# Altium integrated library Analog Devices Switches and Multiplexers Analog Switches.IntLib: 575 symbols (part 17 of 23)
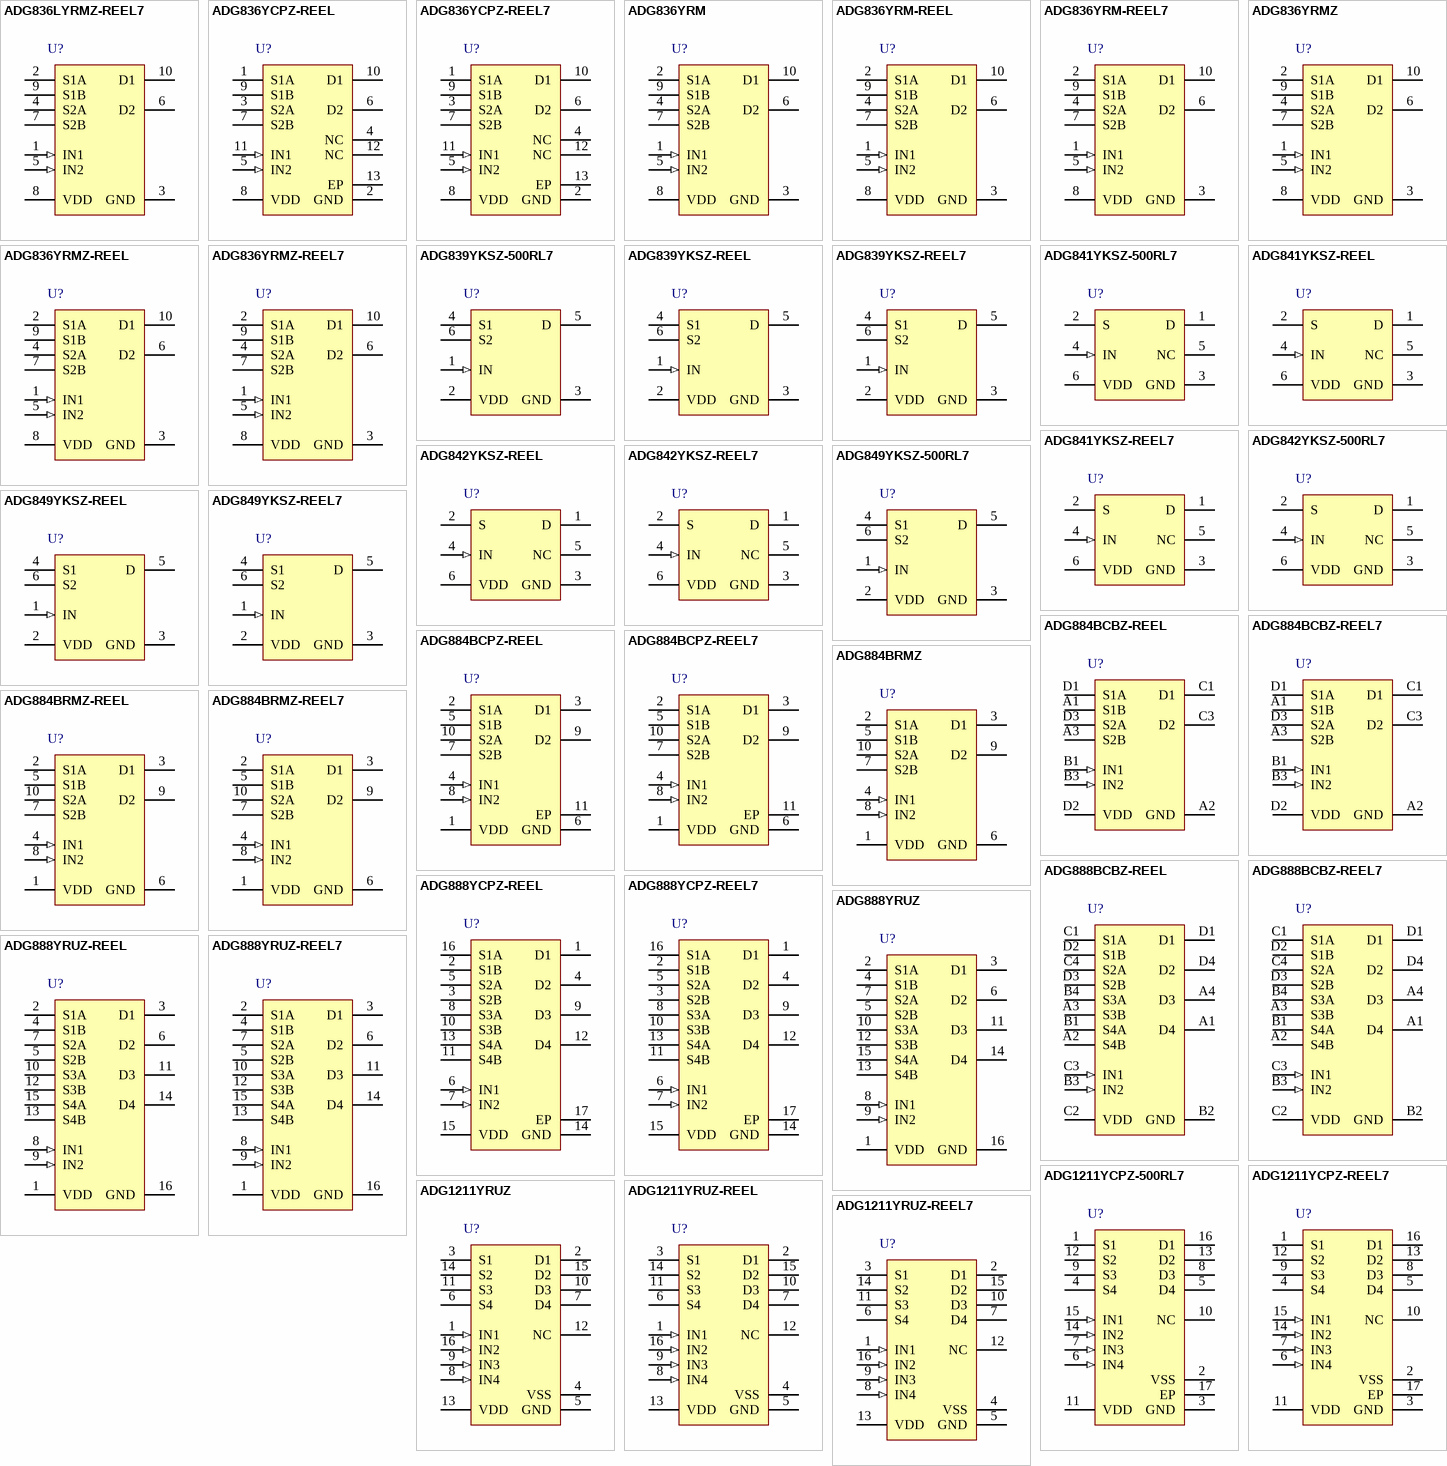
[diagram p31: symbols ADG836LYRMZ-REEL7 to ADG1211YRUZ-REEL7]

## ADG836YRM
designator U?
0.5 Ohm CMOS 1.65 to 3.6 V Dual SPDT / 2:1 MUX, -40 to 125 degC, 10-pin SOP (RM-10), Tube; Manufacturer: Analog Devices; PartNumber: ADG836YRM; # Sw Functions: 2; Id, Is (ON): 200pA, 200pA, 200pA; Max Pos Supply: 3.6V; Min Pos Supply: 1.65V; Power Dissipation: 3.6 uW; Ron (ohms): 0.5; DatasheetVersion: Rev. A; PackageVersion: Aug-05; PackageReference: RM-10; PackageDescription: 10-Pin Mini Small Outline Package, Body 3 x 3 mm, Pitch 0.5 mm; Supplier 1: Digi-Key; Supplier Part Number 1: ADG836YRM-ND; Supplier 2: Mouser; Supplier Part Number 2: 584-ADG836YRM; Configuration: SPDT; Is OFF: 200pA, 200pA, 200pA; Packing: Tube; Mounting Technology: Surface Mount; Code_JEDEC: MO-187-BA; ComponentLink1Description: Manufacturer URL; ComponentLink1URL: http://www.analog.com/en/index.html; ComponentLink2Description: Datasheet; ComponentLink2URL: http://www.analog.com/static/imported-files/data_sheets/ADG836.pdf; ComponentLink3Description: Package Specification; ComponentLink3URL: http://www.analog.com/static/imported-files/packages/PKG_PDF/MSOP%28RM%29/RM_10.pdf
footprint ADI-RM-10_N (SOP, 10-Leads, Body 3x3mm, Pitch 0.5mm, IPC Medium Density)
footprint ADI-RM-10_L (SOP, 10-Leads, Body 3x3mm, Pitch 0.5mm, IPC High Density)
footprint ADI-RM-10_M (SOP, 10-Leads, Body 3x3mm, Pitch 0.5mm, IPC Low Density)
pins: 1 IN1 (in) "Logic control input.", 2 S1A "Source terminal. May be an input or output.", 3 GND (power) "Ground (0 V) reference.", 4 S2A "Source terminal. May be an input or output.", 5 IN2 (in) "Logic control input.", 6 D2 "Drain terminal. May be an input or output.", 7 S2B "Source terminal. May be an input or output.", 8 VDD (power) "Most positive power supply potential.", 9 S1B "Source terminal. May be an input or output.", 10 D1 "Drain terminal. May be an input or output."

## ADG836YRM-REEL
designator U?
0.5 Ohm CMOS 1.65 to 3.6 V Dual SPDT / 2:1 MUX, -40 to 125 degC, 10-pin SOP (RM-10), Reel; Manufacturer: Analog Devices; PartNumber: ADG836YRM-REEL; # Sw Functions: 2; Id, Is (ON): 200pA, 200pA, 200pA; Max Pos Supply: 3.6V; Min Pos Supply: 1.65V; Power Dissipation: 3.6 uW; Ron (ohms): 0.5; DatasheetVersion: Rev. A; PackageVersion: Aug-05; PackageReference: RM-10; PackageDescription: 10-Pin Mini Small Outline Package, Body 3 x 3 mm, Pitch 0.5 mm; Supplier 1: Digi-Key; Supplier Part Number 1: ADG836YRM-REEL-ND; Supplier 2: Mouser; Supplier Part Number 2: 584-ADG836YRM-R; Configuration: SPDT; Is OFF: 200pA, 200pA, 200pA; Packing: Reel; Mounting Technology: Surface Mount; Code_JEDEC: MO-187-BA; ComponentLink1Description: Manufacturer URL; ComponentLink1URL: http://www.analog.com/en/index.html; ComponentLink2Description: Datasheet; ComponentLink2URL: http://www.analog.com/static/imported-files/data_sheets/ADG836.pdf; ComponentLink3Description: Package Specification; ComponentLink3URL: http://www.analog.com/static/imported-files/packages/PKG_PDF/MSOP%28RM%29/RM_10.pdf
footprint ADI-RM-10_N (SOP, 10-Leads, Body 3x3mm, Pitch 0.5mm, IPC Medium Density)
footprint ADI-RM-10_L (SOP, 10-Leads, Body 3x3mm, Pitch 0.5mm, IPC High Density)
footprint ADI-RM-10_M (SOP, 10-Leads, Body 3x3mm, Pitch 0.5mm, IPC Low Density)
pins: 1 IN1 (in) "Logic control input.", 2 S1A "Source terminal. May be an input or output.", 3 GND (power) "Ground (0 V) reference.", 4 S2A "Source terminal. May be an input or output.", 5 IN2 (in) "Logic control input.", 6 D2 "Drain terminal. May be an input or output.", 7 S2B "Source terminal. May be an input or output.", 8 VDD (power) "Most positive power supply potential.", 9 S1B "Source terminal. May be an input or output.", 10 D1 "Drain terminal. May be an input or output."

## ADG836YRM-REEL7
designator U?
0.5 Ohm CMOS 1.65 to 3.6 V Dual SPDT / 2:1 MUX, -40 to 125 degC, 10-pin SOP (RM-10), Reel; Manufacturer: Analog Devices; PartNumber: ADG836YRM-REEL7; # Sw Functions: 2; Id, Is (ON): 200pA, 200pA, 200pA; Max Pos Supply: 3.6V; Min Pos Supply: 1.65V; Power Dissipation: 3.6uW; Ron (ohms): 0.5; DatasheetVersion: Rev. A; PackageVersion: Aug-05; PackageReference: RM-10; PackageDescription: 10-Pin Mini Small Outline Package, Body 3 x 3 mm, Pitch 0.5 mm; Supplier 1: Digi-Key; Supplier Part Number 1: ADG836YRM-REEL7-ND; Configuration: SPDT; Is OFF: 200pA, 200pA, 200pA; Packing: Reel; Mounting Technology: Surface Mount; Code_JEDEC: MO-187-BA; ComponentLink1Description: Manufacturer URL; ComponentLink1URL: http://www.analog.com/en/index.html; ComponentLink2Description: Datasheet; ComponentLink2URL: http://www.analog.com/static/imported-files/data_sheets/ADG836.pdf; ComponentLink3Description: Package Specification; ComponentLink3URL: http://www.analog.com/static/imported-files/packages/PKG_PDF/MSOP%28RM%29/RM_10.pdf
footprint ADI-RM-10_N (SOP, 10-Leads, Body 3x3mm, Pitch 0.5mm, IPC Medium Density)
footprint ADI-RM-10_L (SOP, 10-Leads, Body 3x3mm, Pitch 0.5mm, IPC High Density)
footprint ADI-RM-10_M (SOP, 10-Leads, Body 3x3mm, Pitch 0.5mm, IPC Low Density)
pins: 1 IN1 (in) "Logic control input.", 2 S1A "Source terminal. May be an input or output.", 3 GND (power) "Ground (0 V) reference.", 4 S2A "Source terminal. May be an input or output.", 5 IN2 (in) "Logic control input.", 6 D2 "Drain terminal. May be an input or output.", 7 S2B "Source terminal. May be an input or output.", 8 VDD (power) "Most positive power supply potential.", 9 S1B "Source terminal. May be an input or output.", 10 D1 "Drain terminal. May be an input or output."

## ADG836YRMZ
designator U?
0.5 Ohm CMOS 1.65 to 3.6 V Dual SPDT / 2:1 MUX, -40 to 125 degC, 10-pin SOP (RM-10), Tube; Manufacturer: Analog Devices; PartNumber: ADG836YRMZ; # Sw Functions: 2; Id, Is (ON): 200pA, 200pA, 200pA; Max Pos Supply: 3.6V; Min Pos Supply: 1.65V; Power Dissipation: 3.6uW; Ron (ohms): 0.5; DatasheetVersion: Rev. A; PackageVersion: Aug-05; PackageReference: RM-10; PackageDescription: 10-Pin Mini Small Outline Package, Body 3 x 3 mm, Pitch 0.5 mm; Supplier 1: Digi-Key; Supplier Part Number 1: ADG836YRMZ-ND; Supplier 2: Farnell; Supplier Part Number 2: 2376785; Supplier 3: Newark; Supplier Part Number 3: 59K1658; Supplier 4: Mouser; Supplier Part Number 4: 584-ADG836YRMZ; Configuration: SPDT; Is OFF: 200pA, 200pA, 200pA; Packing: Tube; Mounting Technology: Surface Mount; Code_JEDEC: MO-187-BA; ComponentLink1Description: Manufacturer URL; ComponentLink1URL: http://www.analog.com/en/index.html; ComponentLink2Description: Datasheet; ComponentLink2URL: http://www.analog.com/static/imported-files/data_sheets/ADG836.pdf; ComponentLink3Description: Package Specification; ComponentLink3URL: http://www.analog.com/static/imported-files/packages/PKG_PDF/MSOP%28RM%29/RM_10.pdf
footprint ADI-RM-10_N (SOP, 10-Leads, Body 3x3mm, Pitch 0.5mm, IPC Medium Density)
footprint ADI-RM-10_L (SOP, 10-Leads, Body 3x3mm, Pitch 0.5mm, IPC High Density)
footprint ADI-RM-10_M (SOP, 10-Leads, Body 3x3mm, Pitch 0.5mm, IPC Low Density)
pins: 1 IN1 (in) "Logic control input.", 2 S1A "Source terminal. May be an input or output.", 3 GND (power) "Ground (0 V) reference.", 4 S2A "Source terminal. May be an input or output.", 5 IN2 (in) "Logic control input.", 6 D2 "Drain terminal. May be an input or output.", 7 S2B "Source terminal. May be an input or output.", 8 VDD (power) "Most positive power supply potential.", 9 S1B "Source terminal. May be an input or output.", 10 D1 "Drain terminal. May be an input or output."

## ADG836YRMZ-REEL
designator U?
0.5 Ohm CMOS 1.65 to 3.6 V Dual SPDT / 2:1 MUX, -40 to 125 degC, 10-pin SOP (RM-10), Reel; Manufacturer: Analog Devices; PartNumber: ADG836YRMZ-REEL; # Sw Functions: 2; Id, Is (ON): 200pA, 200pA, 200pA; Max Pos Supply: 3.6V; Min Pos Supply: 1.65V; Power Dissipation: 3.6uW; Ron (ohms): 0.5; DatasheetVersion: Rev. A; PackageVersion: Aug-05; PackageReference: RM-10; PackageDescription: 10-Pin Mini Small Outline Package, Body 3 x 3 mm, Pitch 0.5 mm; Supplier 1: Digi-Key; Supplier Part Number 1: ADG836YRMZ-REEL-ND; Supplier 2: Mouser; Supplier Part Number 2: 584-ADG836YRMZ-R; Configuration: SPDT; Is OFF: 200pA, 200pA, 200pA; Packing: Reel; Mounting Technology: Surface Mount; Code_JEDEC: MO-187-BA; ComponentLink1Description: Manufacturer URL; ComponentLink1URL: http://www.analog.com/en/index.html; ComponentLink2Description: Datasheet; ComponentLink2URL: http://www.analog.com/static/imported-files/data_sheets/ADG836.pdf; ComponentLink3Description: Package Specification; ComponentLink3URL: http://www.analog.com/static/imported-files/packages/PKG_PDF/MSOP%28RM%29/RM_10.pdf
footprint ADI-RM-10_N (SOP, 10-Leads, Body 3x3mm, Pitch 0.5mm, IPC Medium Density)
footprint ADI-RM-10_L (SOP, 10-Leads, Body 3x3mm, Pitch 0.5mm, IPC High Density)
footprint ADI-RM-10_M (SOP, 10-Leads, Body 3x3mm, Pitch 0.5mm, IPC Low Density)
pins: 1 IN1 (in) "Logic control input.", 2 S1A "Source terminal. May be an input or output.", 3 GND (power) "Ground (0 V) reference.", 4 S2A "Source terminal. May be an input or output.", 5 IN2 (in) "Logic control input.", 6 D2 "Drain terminal. May be an input or output.", 7 S2B "Source terminal. May be an input or output.", 8 VDD (power) "Most positive power supply potential.", 9 S1B "Source terminal. May be an input or output.", 10 D1 "Drain terminal. May be an input or output."

## ADG836YRMZ-REEL7
designator U?
0.5 Ohm CMOS 1.65 to 3.6 V Dual SPDT / 2:1 MUX, -40 to 125 degC, 10-pin SOP (RM-10), Reel; Manufacturer: Analog Devices; PartNumber: ADG836YRMZ-REEL7; # Sw Functions: 2; Id, Is (ON): 200pA, 200pA, 200pA; Max Pos Supply: 3.6V; Min Pos Supply: 1.65V; Power Dissipation: 3.6uW; Ron (ohms): 0.5; DatasheetVersion: Rev. A; PackageVersion: Aug-05; PackageReference: RM-10; PackageDescription: 10-Pin Mini Small Outline Package, Body 3 x 3 mm, Pitch 0.5 mm; Supplier 1: Digi-Key; Supplier Part Number 1: ADG836YRMZ-REEL7TR-ND; Supplier 2: Digi-Key; Supplier Part Number 2: ADG836YRMZ-REEL7CT-ND; Supplier 3: Digi-Key; Supplier Part Number 3: ADG836YRMZ-REEL7DKR-ND; Supplier 4: Mouser; Supplier Part Number 4: 584-ADG836YRMZ-R7; Configuration: SPDT; Is OFF: 200pA, 200pA, 200pA; Packing: Reel; Mounting Technology: Surface Mount; Code_JEDEC: MO-187-BA; ComponentLink1Description: Manufacturer URL; ComponentLink1URL: http://www.analog.com/en/index.html; ComponentLink2Description: Datasheet; ComponentLink2URL: http://www.analog.com/static/imported-files/data_sheets/ADG836.pdf; ComponentLink3Description: Package Specification; ComponentLink3URL: http://www.analog.com/static/imported-files/packages/PKG_PDF/MSOP%28RM%29/RM_10.pdf
footprint ADI-RM-10_N (SOP, 10-Leads, Body 3x3mm, Pitch 0.5mm, IPC Medium Density)
footprint ADI-RM-10_L (SOP, 10-Leads, Body 3x3mm, Pitch 0.5mm, IPC High Density)
footprint ADI-RM-10_M (SOP, 10-Leads, Body 3x3mm, Pitch 0.5mm, IPC Low Density)
pins: 1 IN1 (in) "Logic control input.", 2 S1A "Source terminal. May be an input or output.", 3 GND (power) "Ground (0 V) reference.", 4 S2A "Source terminal. May be an input or output.", 5 IN2 (in) "Logic control input.", 6 D2 "Drain terminal. May be an input or output.", 7 S2B "Source terminal. May be an input or output.", 8 VDD (power) "Most positive power supply potential.", 9 S1B "Source terminal. May be an input or output.", 10 D1 "Drain terminal. May be an input or output."

## ADG839YKSZ-500RL7
designator U?
0.35 Ohm CMOS 1.65 to 3.6 V Single SPDT Switch / 2:1 MUX, -40 to 125 degC, 6-pin SOT23 (KS-6), Reel; Manufacturer: Analog Devices; PartNumber: ADG839YKSZ-500RL7; # Sw Functions: 1; Id, Is (ON): 200pA, 200pA, 200pA; Max Pos Supply: 3.6V; Min Pos Supply: 1.65V; Power Dissipation: 3.6uW; Ron (ohms): 0.35; DatasheetVersion: Rev. 0; PackageVersion: 072809-A, 07/2009; PackageReference: KS-6; PackageDescription: 6-Pin Thin Shrink Small Outline Transistor Package, Body 2 x 1.25 mm, Pitch 0.65 mm; Supplier 1: Digi-Key; Supplier Part Number 1: ADG839YKSZ-500RL7TR-ND; Supplier 2: Digi-Key; Supplier Part Number 2: ADG839YKSZ-500RL7CT-ND; Supplier 3: Digi-Key; Supplier Part Number 3: ADG839YKSZ-500RL7DKR-ND; Supplier 4: Newark; Supplier Part Number 4: 59K1663; Supplier 5: Mouser; Supplier Part Number 5: 584-ADG839YKSZ-500R7; Configuration: SPDT; Is OFF: 200pA, 200pA, 200pA; Packing: Reel; Mounting Technology: Surface Mount; Code_JEDEC: MO-203-AB; ComponentLink1Description: Manufacturer URL; ComponentLink1URL: http://www.analog.com/en/index.html; ComponentLink2Description: Datasheet; ComponentLink2URL: http://www.analog.com/static/imported-files/data_sheets/ADG839.pdf; ComponentLink3Description: Package Specification; ComponentLink3URL: http://www.analog.com/static/imported-files/packages/PKG_PDF/SC70(KS)/KS_6.pdf
footprint ADI-KS-6_N (SOT23, 6-Leads, Body 2x1.25mm, Pitch 0.65mm, IPC Medium Density)
footprint ADI-KS-6_L (SOT23, 6-Leads, Body 2x1.25mm, Pitch 0.65mm, IPC High Density)
footprint ADI-KS-6_M (SOT23, 6-Leads, Body 2x1.25mm, Pitch 0.65mm, IPC Low Density)
pins: 1 IN (in) "Logic control input.", 2 VDD (power) "Most positive power supply potential.", 3 GND (power) "Ground (0 V) reference.", 4 S1 "Source terminal. Can be an input or output.", 5 D "Drain terminal. Can be an input or output.", 6 S2 "Source terminal. Can be an input or output."

## ADG839YKSZ-REEL
designator U?
0.35 Ohm CMOS 1.65 to 3.6 V Single SPDT Switch / 2:1 MUX, -40 to 125 degC, 6-pin SOT23 (KS-6), Reel; Manufacturer: Analog Devices; PartNumber: ADG839YKSZ-REEL; # Sw Functions: 1; Id, Is (ON): 200pA, 200pA, 200pA; Max Pos Supply: 3.6V; Min Pos Supply: 1.65V; Power Dissipation: 3.6uW; Ron (ohms): 0.35; DatasheetVersion: Rev. 0; PackageVersion: 072809-A, 07/2009; PackageReference: KS-6; PackageDescription: 6-Pin Thin Shrink Small Outline Transistor Package, Body 2 x 1.25 mm, Pitch 0.65 mm; Supplier 1: Digi-Key; Supplier Part Number 1: ADG839YKSZ-REEL-ND; Supplier 2: Newark; Supplier Part Number 2: 59K1661; Supplier 3: Mouser; Supplier Part Number 3: 584-ADG839YKSZ-R; Configuration: SPDT; Is OFF: 200pA, 200pA, 200pA; Packing: Reel; Mounting Technology: Surface Mount; Code_JEDEC: MO-203-AB; ComponentLink1Description: Manufacturer URL; ComponentLink1URL: http://www.analog.com/en/index.html; ComponentLink2Description: Datasheet; ComponentLink2URL: http://www.analog.com/static/imported-files/data_sheets/ADG839.pdf; ComponentLink3Description: Package Specification; ComponentLink3URL: http://www.analog.com/static/imported-files/packages/PKG_PDF/SC70(KS)/KS_6.pdf
footprint ADI-KS-6_N (SOT23, 6-Leads, Body 2x1.25mm, Pitch 0.65mm, IPC Medium Density)
footprint ADI-KS-6_L (SOT23, 6-Leads, Body 2x1.25mm, Pitch 0.65mm, IPC High Density)
footprint ADI-KS-6_M (SOT23, 6-Leads, Body 2x1.25mm, Pitch 0.65mm, IPC Low Density)
pins: 1 IN (in) "Logic control input.", 2 VDD (power) "Most positive power supply potential.", 3 GND (power) "Ground (0 V) reference.", 4 S1 "Source terminal. Can be an input or output.", 5 D "Drain terminal. Can be an input or output.", 6 S2 "Source terminal. Can be an input or output."

## ADG839YKSZ-REEL7
designator U?
0.35 Ohm CMOS 1.65 to 3.6 V Single SPDT Switch / 2:1 MUX, -40 to 125 degC, 6-pin SOT23 (KS-6), Reel; Manufacturer: Analog Devices; PartNumber: ADG839YKSZ-REEL7; # Sw Functions: 1; Id, Is (ON): 200pA, 200pA, 200pA; Max Pos Supply: 3.6V; Min Pos Supply: 1.65V; Power Dissipation: 3.6uW; Ron (ohms): 0.35; DatasheetVersion: Rev. 0; PackageVersion: 072809-A, 07/2009; PackageReference: KS-6; PackageDescription: 6-Pin Thin Shrink Small Outline Transistor Package, Body 2 x 1.25 mm, Pitch 0.65 mm; Supplier 1: Digi-Key; Supplier Part Number 1: ADG839YKSZ-REEL7TR-ND; Supplier 2: Digi-Key; Supplier Part Number 2: ADG839YKSZ-REEL7CT-ND; Supplier 3: Digi-Key; Supplier Part Number 3: ADG839YKSZ-REEL7DKR-ND; Supplier 4: Mouser; Supplier Part Number 4: 584-ADG839YKSZ-R7; Configuration: SPDT; Is OFF: 200pA, 200pA, 200pA; Packing: Reel; Mounting Technology: Surface Mount; Code_JEDEC: MO-203-AB; ComponentLink1Description: Manufacturer URL; ComponentLink1URL: http://www.analog.com/en/index.html; ComponentLink2Description: Datasheet; ComponentLink2URL: http://www.analog.com/static/imported-files/data_sheets/ADG839.pdf; ComponentLink3Description: Package Specification; ComponentLink3URL: http://www.analog.com/static/imported-files/packages/PKG_PDF/SC70(KS)/KS_6.pdf
footprint ADI-KS-6_N (SOT23, 6-Leads, Body 2x1.25mm, Pitch 0.65mm, IPC Medium Density)
footprint ADI-KS-6_L (SOT23, 6-Leads, Body 2x1.25mm, Pitch 0.65mm, IPC High Density)
footprint ADI-KS-6_M (SOT23, 6-Leads, Body 2x1.25mm, Pitch 0.65mm, IPC Low Density)
pins: 1 IN (in) "Logic control input.", 2 VDD (power) "Most positive power supply potential.", 3 GND (power) "Ground (0 V) reference.", 4 S1 "Source terminal. Can be an input or output.", 5 D "Drain terminal. Can be an input or output.", 6 S2 "Source terminal. Can be an input or output."

## ADG841YKSZ-500RL7
designator U?
0.28 Ohm CMOS 1.65 to 3.6 V Single SPST Switch, -40 to 125 degC, 6-pin SOT23 (KS-6), Reel; Manufacturer: Analog Devices; PartNumber: ADG841YKSZ-500RL7; # Sw Functions: 1; Id, Is (ON): 200pA, 200pA, 200pA; Max Pos Supply: 3.6V; Min Pos Supply: 1.65V; Power Dissipation: 14.4uW; Ron (ohms): 0.28; DatasheetVersion: Rev. 0; PackageVersion: 072809-A, 07/2009; PackageReference: KS-6; PackageDescription: 6-Pin Thin Shrink Small Outline Transistor Package, Body 2 x 1.25 mm, Pitch 0.65 mm; Supplier 1: Digi-Key; Supplier Part Number 1: ADG841YKSZ-500RL7TR-ND; Supplier 2: Digi-Key; Supplier Part Number 2: ADG841YKSZ-500RL7CT-ND; Supplier 3: Digi-Key; Supplier Part Number 3: ADG841YKSZ-500RL7DKR-ND; Supplier 4: Newark; Supplier Part Number 4: 59K1666; Supplier 5: Mouser; Supplier Part Number 5: 584-ADG841YKSZ-500R7; Configuration: SPST; Is OFF: 200pA, 200pA, 200pA; Packing: Reel; Mounting Technology: Surface Mount; Code_JEDEC: MO-203-AB; ComponentLink1Description: Manufacturer URL; ComponentLink1URL: http://www.analog.com/en/index.html; ComponentLink2Description: Datasheet; ComponentLink2URL: http://www.analog.com/static/imported-files/data_sheets/ADG841_842.pdf; ComponentLink3Description: Package Specification; ComponentLink3URL: http://www.analog.com/static/imported-files/packages/PKG_PDF/SC70(KS)/KS_6.pdf
footprint ADI-KS-6_N (SOT23, 6-Leads, Body 2x1.25mm, Pitch 0.65mm, IPC Medium Density)
footprint ADI-KS-6_L (SOT23, 6-Leads, Body 2x1.25mm, Pitch 0.65mm, IPC High Density)
footprint ADI-KS-6_M (SOT23, 6-Leads, Body 2x1.25mm, Pitch 0.65mm, IPC Low Density)
pins: 1 D "Drain Terminal. Can be an input or output.", 2 S "Source Terminal. Can be an input or output.", 3 GND (power) "Ground (0 V) Reference.", 4 IN (in) "Logic Control Input.", 5 NC "No Connect.", 6 VDD (power) "Most Positive Power Supply Potential."

## ADG841YKSZ-REEL
designator U?
0.28 Ohm CMOS 1.65 to 3.6 V Single SPST Switch, -40 to 125 degC, 6-pin SOT23 (KS-6), Reel; Manufacturer: Analog Devices; PartNumber: ADG841YKSZ-REEL; # Sw Functions: 1; Id, Is (ON): 200pA, 200pA, 200pA; Max Pos Supply: 3.6V; Min Pos Supply: 1.65V; Power Dissipation: 14.4uW; Ron (ohms): 0.28; DatasheetVersion: Rev. 0; PackageVersion: 072809-A, 07/2009; PackageReference: KS-6; PackageDescription: 6-Pin Thin Shrink Small Outline Transistor Package, Body 2 x 1.25 mm, Pitch 0.65 mm; Supplier 1: Digi-Key; Supplier Part Number 1: ADG841YKSZ-REEL-ND; Supplier 2: Mouser; Supplier Part Number 2: 584-ADG841YKSZ-R; Configuration: SPST; Is OFF: 200pA, 200pA, 200pA; Packing: Reel; Mounting Technology: Surface Mount; Code_JEDEC: MO-203-AB; ComponentLink1Description: Manufacturer URL; ComponentLink1URL: http://www.analog.com/en/index.html; ComponentLink2Description: Datasheet; ComponentLink2URL: http://www.analog.com/static/imported-files/data_sheets/ADG841_842.pdf; ComponentLink3Description: Package Specification; ComponentLink3URL: http://www.analog.com/static/imported-files/packages/PKG_PDF/SC70(KS)/KS_6.pdf
footprint ADI-KS-6_N (SOT23, 6-Leads, Body 2x1.25mm, Pitch 0.65mm, IPC Medium Density)
footprint ADI-KS-6_L (SOT23, 6-Leads, Body 2x1.25mm, Pitch 0.65mm, IPC High Density)
footprint ADI-KS-6_M (SOT23, 6-Leads, Body 2x1.25mm, Pitch 0.65mm, IPC Low Density)
pins: 1 D "Drain Terminal. Can be an input or output.", 2 S "Source Terminal. Can be an input or output.", 3 GND (power) "Ground (0 V) Reference.", 4 IN (in) "Logic Control Input.", 5 NC "No Connect.", 6 VDD (power) "Most Positive Power Supply Potential."

## ADG841YKSZ-REEL7
designator U?
0.28 Ohm CMOS 1.65 to 3.6 V Single SPST Switch, -40 to 125 degC, 6-pin SOT23 (KS-6), Reel; Manufacturer: Analog Devices; PartNumber: ADG841YKSZ-REEL7; # Sw Functions: 1; Id, Is (ON): 200pA, 200pA, 200pA; Max Pos Supply: 3.6V; Min Pos Supply: 1.65V; Power Dissipation: 14.4uW; Ron (ohms): 0.28; DatasheetVersion: Rev. 0; PackageVersion: 072809-A, 07/2009; PackageReference: KS-6; PackageDescription: 6-Pin Thin Shrink Small Outline Transistor Package, Body 2 x 1.25 mm, Pitch 0.65 mm; Supplier 1: Digi-Key; Supplier Part Number 1: ADG841YKSZ-REEL7TR-ND; Supplier 2: Digi-Key; Supplier Part Number 2: ADG841YKSZ-REEL7CT-ND; Supplier 3: Digi-Key; Supplier Part Number 3: ADG841YKSZ-REEL7DKR-ND; Supplier 4: Mouser; Supplier Part Number 4: 584-ADG841YKSZ-R7; Configuration: SPST; Is OFF: 200pA, 200pA, 200pA; Packing: Reel; Mounting Technology: Surface Mount; Code_JEDEC: MO-203-AB; ComponentLink1Description: Manufacturer URL; ComponentLink1URL: http://www.analog.com/en/index.html; ComponentLink2Description: Datasheet; ComponentLink2URL: http://www.analog.com/static/imported-files/data_sheets/ADG841_842.pdf; ComponentLink3Description: Package Specification; ComponentLink3URL: http://www.analog.com/static/imported-files/packages/PKG_PDF/SC70(KS)/KS_6.pdf
footprint ADI-KS-6_N (SOT23, 6-Leads, Body 2x1.25mm, Pitch 0.65mm, IPC Medium Density)
footprint ADI-KS-6_L (SOT23, 6-Leads, Body 2x1.25mm, Pitch 0.65mm, IPC High Density)
footprint ADI-KS-6_M (SOT23, 6-Leads, Body 2x1.25mm, Pitch 0.65mm, IPC Low Density)
pins: 1 D "Drain Terminal. Can be an input or output.", 2 S "Source Terminal. Can be an input or output.", 3 GND (power) "Ground (0 V) Reference.", 4 IN (in) "Logic Control Input.", 5 NC "No Connect.", 6 VDD (power) "Most Positive Power Supply Potential."

## ADG842YKSZ-500RL7
designator U?
0.28 Ohm CMOS 1.65 to 3.6 V Single SPST Switch, -40 to 125 degC, 6-pin SOT23 (KS-6), Reel; Manufacturer: Analog Devices; PartNumber: ADG842YKSZ-500RL7; # Sw Functions: 1; Id, Is (ON): 200pA, 200pA, 200pA; Max Pos Supply: 3.6V; Min Pos Supply: 1.65V; Power Dissipation: 14.4uW; Ron (ohms): 0.28; DatasheetVersion: Rev. 0; PackageVersion: 072809-A, 07/2009; PackageReference: KS-6; PackageDescription: 6-Pin Thin Shrink Small Outline Transistor Package, Body 2 x 1.25 mm, Pitch 0.65 mm; Supplier 1: Digi-Key; Supplier Part Number 1: ADG842YKSZ-500RL7TR-ND; Supplier 2: Digi-Key; Supplier Part Number 2: ADG842YKSZ-500RL7CT-ND; Supplier 3: Digi-Key; Supplier Part Number 3: ADG842YKSZ-500RL7DKR-ND; Supplier 4: Newark; Supplier Part Number 4: 59K1669; Supplier 5: Mouser; Supplier Part Number 5: 584-ADG842YKSZ-500R7; Configuration: SPST; Is OFF: 200pA, 200pA, 200pA; Packing: Reel; Mounting Technology: Surface Mount; Code_JEDEC: MO-203-AB; ComponentLink1Description: Manufacturer URL; ComponentLink1URL: http://www.analog.com/en/index.html; ComponentLink2Description: Datasheet; ComponentLink2URL: http://www.analog.com/static/imported-files/data_sheets/ADG841_842.pdf; ComponentLink3Description: Package Specification; ComponentLink3URL: http://www.analog.com/static/imported-files/packages/PKG_PDF/SC70(KS)/KS_6.pdf
footprint ADI-KS-6_N (SOT23, 6-Leads, Body 2x1.25mm, Pitch 0.65mm, IPC Medium Density)
footprint ADI-KS-6_L (SOT23, 6-Leads, Body 2x1.25mm, Pitch 0.65mm, IPC High Density)
footprint ADI-KS-6_M (SOT23, 6-Leads, Body 2x1.25mm, Pitch 0.65mm, IPC Low Density)
pins: 1 D "Drain Terminal. Can be an input or output.", 2 S "Source Terminal. Can be an input or output.", 3 GND (power) "Ground (0 V) Reference.", 4 IN (in) "Logic Control Input.", 5 NC "No Connect.", 6 VDD (power) "Most Positive Power Supply Potential."

## ADG842YKSZ-REEL
designator U?
0.28 Ohm CMOS 1.65 to 3.6 V Single SPST Switch, -40 to 125 degC, 6-pin SOT23 (KS-6), Reel; Manufacturer: Analog Devices; PartNumber: ADG842YKSZ-REEL; # Sw Functions: 1; Id, Is (ON): 200pA, 200pA, 200pA; Max Pos Supply: 3.6V; Min Pos Supply: 1.65V; Power Dissipation: 14.4uW; Ron (ohms): 0.28; DatasheetVersion: Rev. 0; PackageVersion: 072809-A, 07/2009; PackageReference: KS-6; PackageDescription: 6-Pin Thin Shrink Small Outline Transistor Package, Body 2 x 1.25 mm, Pitch 0.65 mm; Supplier 1: Digi-Key; Supplier Part Number 1: ADG842YKSZ-REEL-ND; Configuration: SPST; Is OFF: 200pA, 200pA, 200pA; Packing: Reel; Mounting Technology: Surface Mount; Code_JEDEC: MO-203-AB; ComponentLink1Description: Manufacturer URL; ComponentLink1URL: http://www.analog.com/en/index.html; ComponentLink2Description: Datasheet; ComponentLink2URL: http://www.analog.com/static/imported-files/data_sheets/ADG841_842.pdf; ComponentLink3Description: Package Specification; ComponentLink3URL: http://www.analog.com/static/imported-files/packages/PKG_PDF/SC70(KS)/KS_6.pdf
footprint ADI-KS-6_N (SOT23, 6-Leads, Body 2x1.25mm, Pitch 0.65mm, IPC Medium Density)
footprint ADI-KS-6_L (SOT23, 6-Leads, Body 2x1.25mm, Pitch 0.65mm, IPC High Density)
footprint ADI-KS-6_M (SOT23, 6-Leads, Body 2x1.25mm, Pitch 0.65mm, IPC Low Density)
pins: 1 D "Drain Terminal. Can be an input or output.", 2 S "Source Terminal. Can be an input or output.", 3 GND (power) "Ground (0 V) Reference.", 4 IN (in) "Logic Control Input.", 5 NC "No Connect.", 6 VDD (power) "Most Positive Power Supply Potential."

## ADG842YKSZ-REEL7
designator U?
0.28 Ohm CMOS 1.65 to 3.6 V Single SPST Switch, -40 to 125 degC, 6-pin SOT23 (KS-6), Reel; Manufacturer: Analog Devices; PartNumber: ADG842YKSZ-REEL7; # Sw Functions: 1; Id, Is (ON): 200pA, 200pA, 200pA; Max Pos Supply: 3.6V; Min Pos Supply: 1.65V; Power Dissipation: 14.4uW; Ron (ohms): 0.28; DatasheetVersion: Rev. 0; PackageVersion: 072809-A, 07/2009; PackageReference: KS-6; PackageDescription: 6-Pin Thin Shrink Small Outline Transistor Package, Body 2 x 1.25 mm, Pitch 0.65 mm; Supplier 1: Digi-Key; Supplier Part Number 1: ADG842YKSZ-REEL7TR-ND; Supplier 2: Digi-Key; Supplier Part Number 2: ADG842YKSZ-REEL7CT-ND; Supplier 3: Digi-Key; Supplier Part Number 3: ADG842YKSZ-REEL7DKR-ND; Supplier 4: Mouser; Supplier Part Number 4: 584-ADG842YKSZ-R7; Configuration: SPST; Is OFF: 200pA, 200pA, 200pA; Packing: Reel; Mounting Technology: Surface Mount; Code_JEDEC: MO-203-AB; ComponentLink1Description: Manufacturer URL; ComponentLink1URL: http://www.analog.com/en/index.html; ComponentLink2Description: Datasheet; ComponentLink2URL: http://www.analog.com/static/imported-files/data_sheets/ADG841_842.pdf; ComponentLink3Description: Package Specification; ComponentLink3URL: http://www.analog.com/static/imported-files/packages/PKG_PDF/SC70(KS)/KS_6.pdf
footprint ADI-KS-6_N (SOT23, 6-Leads, Body 2x1.25mm, Pitch 0.65mm, IPC Medium Density)
footprint ADI-KS-6_L (SOT23, 6-Leads, Body 2x1.25mm, Pitch 0.65mm, IPC High Density)
footprint ADI-KS-6_M (SOT23, 6-Leads, Body 2x1.25mm, Pitch 0.65mm, IPC Low Density)
pins: 1 D "Drain Terminal. Can be an input or output.", 2 S "Source Terminal. Can be an input or output.", 3 GND (power) "Ground (0 V) Reference.", 4 IN (in) "Logic Control Input.", 5 NC "No Connect.", 6 VDD (power) "Most Positive Power Supply Potential."

## ADG849YKSZ-500RL7
designator U?
3 V / 5 V CMOS 0.5 Ohm SPDT / 2:1 Mux, -40 to 125 degC, 6-pin SOT23 (KS-6), Reel; Manufacturer: Analog Devices; PartNumber: ADG849YKSZ-500RL7; # Sw Functions: 1; Id, Is (ON): 40pA, 10pA; Is OFF: 10pA, 100pA; Max Pos Supply: 5.5V; Min Pos Supply: 1.8V; Power Dissipation: 5.5nW; Ron (ohms): 0.5; DatasheetVersion: Rev. 0; PackageVersion: 072809-A, 07/2009; PackageReference: KS-6; PackageDescription: 6-Pin Thin Shrink Small Outline Transistor Package, Body 2 x 1.25 mm, Pitch 0.65 mm; Supplier 1: Digi-Key; Supplier Part Number 1: ADG849YKSZ500RLTR-ND; Supplier 2: Digi-Key; Supplier Part Number 2: ADG849YKSZ500RLCT-ND; Supplier 3: Digi-Key; Supplier Part Number 3: ADG849YKSZ500RLDKR-ND; Supplier 4: Farnell; Supplier Part Number 4: 1651265; Supplier 5: Farnell; Supplier Part Number 5: 1651265RL; Supplier 6: Newark; Supplier Part Number 6: 19M8675; Supplier 7: Newark; Supplier Part Number 7: 59K1672; Supplier 8: Mouser; Supplier Part Number 8: 584-ADG849YKSZ-500R7; Configuration: SPDT; Packing: Reel; Mounting Technology: Surface Mount; Code_JEDEC: MO-203-AB; ComponentLink1Description: Manufacturer URL; ComponentLink1URL: http://www.analog.com/en/index.html; ComponentLink2Description: Datasheet; ComponentLink2URL: http://www.analog.com/static/imported-files/data_sheets/ADG849.pdf; ComponentLink3Description: Package Specification; ComponentLink3URL: http://www.analog.com/static/imported-files/packages/PKG_PDF/SC70(KS)/KS_6.pdf
footprint ADI-KS-6_N (SOT23, 6-Leads, Body 2x1.25mm, Pitch 0.65mm, IPC Medium Density)
footprint ADI-KS-6_L (SOT23, 6-Leads, Body 2x1.25mm, Pitch 0.65mm, IPC High Density)
footprint ADI-KS-6_M (SOT23, 6-Leads, Body 2x1.25mm, Pitch 0.65mm, IPC Low Density)
pins: 1 IN (in) "Logic Control Input.", 2 VDD (power) "Most Positive Power Supply Potential.", 3 GND (power) "Ground (0 V) Reference.", 4 S1 "Source Terminal. May be an input or output.", 5 D "Drain Terminal. May be an input or output.", 6 S2 "Source Terminal. May be an input or output."

## ADG849YKSZ-REEL
designator U?
3 V / 5 V CMOS 0.5 Ohm SPDT / 2:1 Mux, -40 to 125 degC, 6-pin SOT23 (KS-6), Reel; Manufacturer: Analog Devices; PartNumber: ADG849YKSZ-REEL; # Sw Functions: 1; Id, Is (ON): 40pA, 10pA; Is OFF: 10pA, 100pA; Max Pos Supply: 5.5V; Min Pos Supply: 1.8V; Power Dissipation: 5.5nW; Ron (ohms): 0.5; DatasheetVersion: Rev. 0; PackageVersion: 072809-A, 07/2009; PackageReference: KS-6; PackageDescription: 6-Pin Thin Shrink Small Outline Transistor Package, Body 2 x 1.25 mm, Pitch 0.65 mm; Supplier 1: Digi-Key; Supplier Part Number 1: ADG849YKSZ-REELTR-ND; Supplier 2: Digi-Key; Supplier Part Number 2: ADG849YKSZ-REELCT-ND; Supplier 3: Digi-Key; Supplier Part Number 3: ADG849YKSZ-REELDKR-ND; Supplier 4: Newark; Supplier Part Number 4: 59K1670; Supplier 5: Mouser; Supplier Part Number 5: 584-ADG849YKSZ-R; Configuration: SPDT; Packing: Reel; Mounting Technology: Surface Mount; Code_JEDEC: MO-203-AB; ComponentLink1Description: Manufacturer URL; ComponentLink1URL: http://www.analog.com/en/index.html; ComponentLink2Description: Datasheet; ComponentLink2URL: http://www.analog.com/static/imported-files/data_sheets/ADG849.pdf; ComponentLink3Description: Package Specification; ComponentLink3URL: http://www.analog.com/static/imported-files/packages/PKG_PDF/SC70(KS)/KS_6.pdf
footprint ADI-KS-6_N (SOT23, 6-Leads, Body 2x1.25mm, Pitch 0.65mm, IPC Medium Density)
footprint ADI-KS-6_L (SOT23, 6-Leads, Body 2x1.25mm, Pitch 0.65mm, IPC High Density)
footprint ADI-KS-6_M (SOT23, 6-Leads, Body 2x1.25mm, Pitch 0.65mm, IPC Low Density)
pins: 1 IN (in) "Logic Control Input.", 2 VDD (power) "Most Positive Power Supply Potential.", 3 GND (power) "Ground (0 V) Reference.", 4 S1 "Source Terminal. May be an input or output.", 5 D "Drain Terminal. May be an input or output.", 6 S2 "Source Terminal. May be an input or output."

## ADG849YKSZ-REEL7
designator U?
3 V / 5 V CMOS 0.5 Ohm SPDT / 2:1 Mux, -40 to 125 degC, 6-pin SOT23 (KS-6), Reel; Manufacturer: Analog Devices; PartNumber: ADG849YKSZ-REEL7; # Sw Functions: 1; Id, Is (ON): 40pA, 10pA; Is OFF: 10pA, 100pA; Max Pos Supply: 5.5V; Min Pos Supply: 1.8V; Power Dissipation: 5.5nW; Ron (ohms): 0.5; DatasheetVersion: Rev. 0; PackageVersion: 072809-A, 07/2009; PackageReference: KS-6; PackageDescription: 6-Pin Thin Shrink Small Outline Transistor Package, Body 2 x 1.25 mm, Pitch 0.65 mm; Supplier 1: Digi-Key; Supplier Part Number 1: ADG849YKSZ-REEL7TR-ND; Supplier 2: Digi-Key; Supplier Part Number 2: ADG849YKSZ-REEL7CT-ND; Supplier 3: Digi-Key; Supplier Part Number 3: ADG849YKSZ-REEL7DKR-ND; Supplier 4: Farnell; Supplier Part Number 4: 2312950; Supplier 5: Newark; Supplier Part Number 5: 67W3131; Supplier 6: Newark; Supplier Part Number 6: 59K1671; Supplier 7: Mouser; Supplier Part Number 7: 584-ADG849YKSZ-R7; Configuration: SPDT; Packing: Reel; Mounting Technology: Surface Mount; Code_JEDEC: MO-203-AB; ComponentLink1Description: Manufacturer URL; ComponentLink1URL: http://www.analog.com/en/index.html; ComponentLink2Description: Datasheet; ComponentLink2URL: http://www.analog.com/static/imported-files/data_sheets/ADG849.pdf; ComponentLink3Description: Package Specification; ComponentLink3URL: http://www.analog.com/static/imported-files/packages/PKG_PDF/SC70(KS)/KS_6.pdf
footprint ADI-KS-6_N (SOT23, 6-Leads, Body 2x1.25mm, Pitch 0.65mm, IPC Medium Density)
footprint ADI-KS-6_L (SOT23, 6-Leads, Body 2x1.25mm, Pitch 0.65mm, IPC High Density)
footprint ADI-KS-6_M (SOT23, 6-Leads, Body 2x1.25mm, Pitch 0.65mm, IPC Low Density)
pins: 1 IN (in) "Logic Control Input.", 2 VDD (power) "Most Positive Power Supply Potential.", 3 GND (power) "Ground (0 V) Reference.", 4 S1 "Source Terminal. May be an input or output.", 5 D "Drain Terminal. May be an input or output.", 6 S2 "Source Terminal. May be an input or output."

## ADG884BCBZ-REEL
designator U?
0.5 Ohm CMOS, Dual 2:1 MUX / SPDT Audio Switch, -40 to 85 degC, 10-pin BGA (CB-10), Reel; Manufacturer: Analog Devices; PartNumber: ADG884BCBZ-REEL; # Sw Functions: 2; Id, Is (ON): 200pA, 200pA, 200pA; Max Pos Supply: 5.5V; Min Pos Supply: 1.8V; Power Dissipation: 5.5uW; Ron (ohms): 0.5; DatasheetVersion: Rev. D; PackageVersion: 02-03-2012-A, 03/2012; PackageReference: CB-10; PackageDescription: 10-Ball Wafer Level Chip Scale Package, Body 2 x 1.5 mm, Pitch 0.5 mm; Supplier 1: Digi-Key; Supplier Part Number 1: ADG884BCBZ-REEL-ND; Supplier 2: Mouser; Supplier Part Number 2: 584-ADG884BCBZ-R; Configuration: SPDT; Is OFF: 200pA, 200pA, 200pA; Packing: Reel; Mounting Technology: Surface Mount; ComponentLink1Description: Manufacturer URL; ComponentLink1URL: http://www.analog.com/en/index.html; ComponentLink2Description: Datasheet; ComponentLink2URL: http://www.analog.com/static/imported-files/data_sheets/ADG884.pdf; ComponentLink3Description: Package Specification; ComponentLink3URL: http://www.analog.com/static/imported-files/packages/PKG_PDF/WLCSP(CB)/CB_10.pdf
footprint ADI-CB-10 (BGA, 10-Balls, Body 2x1.5mm, Pitch 0.5mm)
pins: A1 S1B "Source Terminal. Can be an input or output.", A2 GND (power) "Ground (0 V) Reference.", A3 S2B "Source Terminal. Can be an input or output.", B1 IN1 (in) "Logic Control Input.", B3 IN2 (in) "Login Control Input.", C1 D1 "Drain Terminal. Can be an input or output.", C3 D2 "Drain Terminal. Can be an input or output.", D1 S1A "Source Terminal. Can be an input or output.", D2 VDD (power) "Most Positive Power Supply Potential.", D3 S2A "Source Terminal. Can be an input or output."

## ADG884BCBZ-REEL7
designator U?
0.5 Ohm CMOS, Dual 2:1 MUX / SPDT Audio Switches, -40 to 85 degC, 10-pin BGA (CB-10), Reel; Manufacturer: Analog Devices; PartNumber: ADG884BCBZ-REEL7; # Sw Functions: 2; Id, Is (ON): 200pA, 200pA, 200pA; Max Pos Supply: 5.5V; Min Pos Supply: 1.8V; Power Dissipation: 5.5uW; Ron (ohms): 0.5; DatasheetVersion: Rev. D; PackageVersion: 02-03-2012-A, 03/2012; PackageReference: CB-10; PackageDescription: 10-Ball Wafer Level Chip Scale Package, Body 2 x 1.5 mm, Pitch 0.5 mm; Supplier 1: Digi-Key; Supplier Part Number 1: ADG884BCBZ-REEL7TR-ND; Supplier 2: Digi-Key; Supplier Part Number 2: ADG884BCBZ-REEL7CT-ND; Supplier 3: Digi-Key; Supplier Part Number 3: ADG884BCBZ-REEL7DKR-ND; Supplier 4: Newark; Supplier Part Number 4: 12M7859; Supplier 5: Mouser; Supplier Part Number 5: 584-ADG884BCBZ-R7; Configuration: SPDT; Is OFF: 200pA, 200pA, 200pA; Packing: Reel; Mounting Technology: Surface Mount; ComponentLink1Description: Manufacturer URL; ComponentLink1URL: http://www.analog.com/en/index.html; ComponentLink2Description: Datasheet; ComponentLink2URL: http://www.analog.com/static/imported-files/data_sheets/ADG884.pdf; ComponentLink3Description: Package Specification; ComponentLink3URL: http://www.analog.com/static/imported-files/packages/PKG_PDF/WLCSP(CB)/CB_10.pdf
footprint ADI-CB-10 (BGA, 10-Balls, Body 2x1.5mm, Pitch 0.5mm)
pins: A1 S1B "Source Terminal. Can be an input or output.", A2 GND (power) "Ground (0 V) Reference.", A3 S2B "Source Terminal. Can be an input or output.", B1 IN1 (in) "Logic Control Input.", B3 IN2 (in) "Login Control Input.", C1 D1 "Drain Terminal. Can be an input or output.", C3 D2 "Drain Terminal. Can be an input or output.", D1 S1A "Source Terminal. Can be an input or output.", D2 VDD (power) "Most Positive Power Supply Potential.", D3 S2A "Source Terminal. Can be an input or output."

## ADG884BCPZ-REEL
designator U?
0.5 Ohm CMOS, Dual 2:1 MUX / SPDT Audio Switches, -40 to 85 degC, 10-pin SON (CP-10-9), Reel; Manufacturer: Analog Devices; PartNumber: ADG884BCPZ-REEL; # Sw Functions: 2; Id, Is (ON): 200pA, 200pA, 200pA; Max Pos Supply: 5.5V; Min Pos Supply: 1.8V; Power Dissipation: 5.5uW; Ron (ohms): 0.5; DatasheetVersion: Rev. D; PackageVersion: 02-27-2012-B; PackageReference: CP-10-9; PackageDescription: 10-Pin Lead Frame Chip Scale Package, Body 3 X 3 mm, Pitch 0.5 mm; Supplier 1: Digi-Key; Supplier Part Number 1: ADG884BCPZ-REEL-ND; Supplier 2: Mouser; Supplier Part Number 2: 584-ADG884BCPZ-R; Configuration: SPDT; Is OFF: 200pA, 200pA, 200pA; Packing: Reel; Mounting Technology: Surface Mount; ComponentLink1Description: Manufacturer URL; ComponentLink1URL: http://www.analog.com/en/index.html; ComponentLink2Description: Datasheet; ComponentLink2URL: http://www.analog.com/static/imported-files/data_sheets/ADG884.pdf; ComponentLink3Description: Package Specification; ComponentLink3URL: http://www.analog.com/static/imported-files/packages/CP_10_9.pdf
footprint ADI-CP-10-9_V (SON, 10-Leads, Body 3x3mm, Pitch 0.5mm, Thermal Pad 2.48x1.74mm)
pins: 1 VDD (power) "Most Positive Power Supply Potential.", 2 S1A "Source Terminal. Can be an input or output.", 3 D1 "Drain Terminal. Can be an input or output.", 4 IN1 (in) "Logic Control Input.", 5 S1B "Source Terminal. Can be an input or output.", 6 GND (power) "Ground (0 V) Reference.", 7 S2B "Source Terminal. Can be an input or output.", 8 IN2 (in) "Login Control Input.", 9 D2 "Drain Terminal. Can be an input or output.", 10 S2A "Source Terminal. Can be an input or output.", 11 EP (power) "The LFCSP_WD package has an exposed pad that should be tied to ground."

## ADG884BCPZ-REEL7
designator U?
0.5 Ohm CMOS, Dual 2:1 MUX / SPDT Audio Switch, -40 to 85 degC, 10-pin SON (CP-10-9), Reel; Manufacturer: Analog Devices; PartNumber: ADG884BCPZ-REEL7; # Sw Functions: 2; Id, Is (ON): 200pA, 200pA, 200pA; Max Pos Supply: 5.5V; Min Pos Supply: 1.8V; Power Dissipation: 5.5uW; Ron (ohms): 0.5; DatasheetVersion: Rev. D; PackageVersion: 02-27-2012-B; PackageReference: CP-10-9; PackageDescription: 10-Pin Lead Frame Chip Scale Package, Body 3 X 3 mm, Pitch 0.5 mm; Supplier 1: Digi-Key; Supplier Part Number 1: ADG884BCPZ-REEL7TR-ND; Supplier 2: Digi-Key; Supplier Part Number 2: ADG884BCPZ-REEL7CT-ND; Supplier 3: Digi-Key; Supplier Part Number 3: ADG884BCPZ-REEL7DKR-ND; Supplier 4: Newark; Supplier Part Number 4: 67W2643; Supplier 5: Newark; Supplier Part Number 5: 59K1676; Supplier 6: Mouser; Supplier Part Number 6: 584-ADG884BCPZ-R7; Configuration: SPDT; Is OFF: 200pA, 200pA, 200pA; Packing: Reel; Mounting Technology: Surface Mount; ComponentLink1Description: Manufacturer URL; ComponentLink1URL: http://www.analog.com/en/index.html; ComponentLink2Description: Datasheet; ComponentLink2URL: http://www.analog.com/static/imported-files/data_sheets/ADG884.pdf; ComponentLink3Description: Package Specification; ComponentLink3URL: http://www.analog.com/static/imported-files/packages/CP_10_9.pdf
footprint ADI-CP-10-9_V (SON, 10-Leads, Body 3x3mm, Pitch 0.5mm, Thermal Pad 2.48x1.74mm)
pins: 1 VDD (power) "Most Positive Power Supply Potential.", 2 S1A "Source Terminal. Can be an input or output.", 3 D1 "Drain Terminal. Can be an input or output.", 4 IN1 (in) "Logic Control Input.", 5 S1B "Source Terminal. Can be an input or output.", 6 GND (power) "Ground (0 V) Reference.", 7 S2B "Source Terminal. Can be an input or output.", 8 IN2 (in) "Login Control Input.", 9 D2 "Drain Terminal. Can be an input or output.", 10 S2A "Source Terminal. Can be an input or output.", 11 EP (power) "The LFCSP_WD package has an exposed pad that should be tied to ground."

## ADG884BRMZ
designator U?
0.5 Ohm CMOS, Dual 2:1 MUX / SPDT Audio Switches, -40 to 85 degC, 10-pin SOP (RM-10), Tube; Manufacturer: Analog Devices; PartNumber: ADG884BRMZ; # Sw Functions: 2; Id, Is (ON): 200pA, 200pA, 200pA; Max Pos Supply: 5.5V; Min Pos Supply: 1.8V; Power Dissipation: 5.5uW; Ron (ohms): 0.5; DatasheetVersion: Rev. D; PackageVersion: Aug-05; PackageReference: RM-10; PackageDescription: 10-Pin Mini Small Outline Package, Body 3 x 3 mm, Pitch 0.5 mm; Supplier 1: Digi-Key; Supplier Part Number 1: ADG884BRMZ-ND; Supplier 2: Farnell; Supplier Part Number 2: 1078224; Supplier 3: Newark; Supplier Part Number 3: 19M0697; Supplier 4: Mouser; Supplier Part Number 4: 584-ADG884BRMZ; Configuration: SPDT; Is OFF: 200pA, 200pA, 200pA; Packing: Tube; Mounting Technology: Surface Mount; Code_JEDEC: MO-187-BA; ComponentLink1Description: Manufacturer URL; ComponentLink1URL: http://www.analog.com/en/index.html; ComponentLink2Description: Datasheet; ComponentLink2URL: http://www.analog.com/static/imported-files/data_sheets/ADG884.pdf; ComponentLink3Description: Package Specification; ComponentLink3URL: http://www.analog.com/static/imported-files/packages/PKG_PDF/MSOP%28RM%29/RM_10.pdf
footprint ADI-RM-10_N (SOP, 10-Leads, Body 3x3mm, Pitch 0.5mm, IPC Medium Density)
footprint ADI-RM-10_L (SOP, 10-Leads, Body 3x3mm, Pitch 0.5mm, IPC High Density)
footprint ADI-RM-10_M (SOP, 10-Leads, Body 3x3mm, Pitch 0.5mm, IPC Low Density)
pins: 1 VDD (power) "Most Positive Power Supply Potential.", 2 S1A "Source Terminal. Can be an input or output.", 3 D1 "Drain Terminal. Can be an input or output.", 4 IN1 (in) "Logic Control Input.", 5 S1B "Source Terminal. Can be an input or output.", 6 GND (power) "Ground (0 V) Reference.", 7 S2B "Source Terminal. Can be an input or output.", 8 IN2 (in) "Login Control Input.", 9 D2 "Drain Terminal. Can be an input or output.", 10 S2A "Source Terminal. Can be an input or output."

## ADG884BRMZ-REEL
designator U?
0.5 Ohm CMOS, Dual 2:1 MUX / SPDT Audio Switches, -40 to 85 degC, 10-pin SOP (RM-10), Reel; Manufacturer: Analog Devices; PartNumber: ADG884BRMZ-REEL; # Sw Functions: 2; Id, Is (ON): 200pA, 200pA, 200pA; Max Pos Supply: 5.5V; Min Pos Supply: 1.8V; Power Dissipation: 5.5uW; Ron (ohms): 0.5; DatasheetVersion: Rev. D; PackageVersion: Aug-05; PackageReference: RM-10; PackageDescription: 10-Pin Mini Small Outline Package, Body 3 x 3 mm, Pitch 0.5 mm; Supplier 1: Digi-Key; Supplier Part Number 1: ADG884BRMZ-REEL-ND; Supplier 2: Newark; Supplier Part Number 2: 59K1678; Configuration: SPDT; Is OFF: 200pA, 200pA, 200pA; Packing: Reel; Mounting Technology: Surface Mount; Code_JEDEC: MO-187-BA; ComponentLink1Description: Manufacturer URL; ComponentLink1URL: http://www.analog.com/en/index.html; ComponentLink2Description: Datasheet; ComponentLink2URL: http://www.analog.com/static/imported-files/data_sheets/ADG884.pdf; ComponentLink3Description: Package Specification; ComponentLink3URL: http://www.analog.com/static/imported-files/packages/PKG_PDF/MSOP%28RM%29/RM_10.pdf
footprint ADI-RM-10_N (SOP, 10-Leads, Body 3x3mm, Pitch 0.5mm, IPC Medium Density)
footprint ADI-RM-10_L (SOP, 10-Leads, Body 3x3mm, Pitch 0.5mm, IPC High Density)
footprint ADI-RM-10_M (SOP, 10-Leads, Body 3x3mm, Pitch 0.5mm, IPC Low Density)
pins: 1 VDD (power) "Most Positive Power Supply Potential.", 2 S1A "Source Terminal. Can be an input or output.", 3 D1 "Drain Terminal. Can be an input or output.", 4 IN1 (in) "Logic Control Input.", 5 S1B "Source Terminal. Can be an input or output.", 6 GND (power) "Ground (0 V) Reference.", 7 S2B "Source Terminal. Can be an input or output.", 8 IN2 (in) "Login Control Input.", 9 D2 "Drain Terminal. Can be an input or output.", 10 S2A "Source Terminal. Can be an input or output."

## ADG884BRMZ-REEL7
designator U?
0.5 Ohm CMOS, Dual 2:1 MUX / SPDT Audio Switches, -40 to 85 degC, 10-pin SOP (RM-10), Reel; Manufacturer: Analog Devices; PartNumber: ADG884BRMZ-REEL7; # Sw Functions: 2; Id, Is (ON): 200pA, 200pA, 200pA; Max Pos Supply: 5.5V; Min Pos Supply: 1.8V; Power Dissipation: 5.5uW; Ron (ohms): 0.5; DatasheetVersion: Rev. D; PackageVersion: Aug-05; PackageReference: RM-10; PackageDescription: 10-Pin Mini Small Outline Package, Body 3 x 3 mm, Pitch 0.5 mm; Supplier 1: Digi-Key; Supplier Part Number 1: ADG884BRMZ-REEL7TR-ND; Supplier 2: Digi-Key; Supplier Part Number 2: ADG884BRMZ-REEL7CT-ND; Supplier 3: Digi-Key; Supplier Part Number 3: ADG884BRMZ-REEL7DKR-ND; Supplier 4: Newark; Supplier Part Number 4: 59K1679; Supplier 5: Mouser; Supplier Part Number 5: 584-ADG884BRMZ-R7; Configuration: SPDT; Is OFF: 200pA, 200pA, 200pA; Packing: Reel; Mounting Technology: Surface Mount; Code_JEDEC: MO-187-BA; ComponentLink1Description: Manufacturer URL; ComponentLink1URL: http://www.analog.com/en/index.html; ComponentLink2Description: Datasheet; ComponentLink2URL: http://www.analog.com/static/imported-files/data_sheets/ADG884.pdf; ComponentLink3Description: Package Specification; ComponentLink3URL: http://www.analog.com/static/imported-files/packages/PKG_PDF/MSOP%28RM%29/RM_10.pdf
footprint ADI-RM-10_N (SOP, 10-Leads, Body 3x3mm, Pitch 0.5mm, IPC Medium Density)
footprint ADI-RM-10_L (SOP, 10-Leads, Body 3x3mm, Pitch 0.5mm, IPC High Density)
footprint ADI-RM-10_M (SOP, 10-Leads, Body 3x3mm, Pitch 0.5mm, IPC Low Density)
pins: 1 VDD (power) "Most Positive Power Supply Potential.", 2 S1A "Source Terminal. Can be an input or output.", 3 D1 "Drain Terminal. Can be an input or output.", 4 IN1 (in) "Logic Control Input.", 5 S1B "Source Terminal. Can be an input or output.", 6 GND (power) "Ground (0 V) Reference.", 7 S2B "Source Terminal. Can be an input or output.", 8 IN2 (in) "Login Control Input.", 9 D2 "Drain Terminal. Can be an input or output.", 10 S2A "Source Terminal. Can be an input or output."

## ADG888BCBZ-REEL
designator U?
0.4 Ohm CMOS, Dual DPDT Switches, -40 to 85 degC, 16-pin BGA (CB-16-1), Reel; Manufacturer: Analog Devices; PartNumber: ADG888BCBZ-REEL; # Sw Functions: 2; Configuration: SPDT; Id, Is (ON): 200pA, 200pA, 200pA; Max Pos Supply: 5.5V; Min Pos Supply: 1.8V; Power Dissipation: 20uW; Ron (ohms): 0.4; DatasheetVersion: Rev. A; PackageReference: CB-16-1; PackageDescription: 16-Ball Wafer Level Chip Scale Package, Body 2 X 2 mm, Pitch 0.5 mm; Supplier 1: Mouser; Supplier Part Number 1: N/A; Is OFF: 200pA, 200pA, 200pA; Packing: Reel; Mounting Technology: Surface Mount; ComponentLink1Description: Manufacturer URL; ComponentLink1URL: http://www.analog.com/en/index.html; ComponentLink2Description: Datasheet; ComponentLink2URL: http://www.analog.com/static/imported-files/data_sheets/ADG888.pdf; ComponentLink3Description: Package Specification; ComponentLink3URL: http://www.analog.com/static/imported-files/packages/PKG_PDF/WLCSP(CB)/CB_16_1.pdf
footprint ADI-CB-16-1 (BGA, 16-Balls, Body 2x2mm, Pitch 0.5mm)
pins: A1 D4 "Drain Terminal. Can be an input or output.", A2 S4B "Source Terminal. Can be an input or output.", A3 S3B "Source Terminal. Can be an input or output.", A4 D3 "Drain Terminal. Can be an input or output.", B1 S4A "Source Terminal. Can be an input or output.", B2 GND (power) "Ground (0 V) Reference.", B3 IN2 (in) "Logic Control Input.", B4 S3A "Source Terminal. Can be an input or output.", C1 S1A "Source Terminal. Can be an input or output.", C2 VDD (power) "Most Positive Power Supply Potential.", C3 IN1 (in) "Logic Control Input.", C4 S2A "Source Terminal. Can be an input or output.", D1 "Drain Terminal. Can be an input or output.", D2 S1B "Source Terminal. Can be an input or output.", D3 S2B "Source Terminal. Can be an input or output.", D4 D2 "Drain Terminal. Can be an input or output."

## ADG888BCBZ-REEL7
designator U?
0.4 Ohm CMOS, Dual DPDT Switches, -40 to 85 degC, 16-pin BGA (CB-16-1), Reel; Manufacturer: Analog Devices; PartNumber: ADG888BCBZ-REEL7; # Sw Functions: 2; Configuration: SPDT; Id, Is (ON): 200pA, 200pA, 200pA; Max Pos Supply: 5.5V; Min Pos Supply: 1.8V; Power Dissipation: 20uW; Ron (ohms): 0.4; DatasheetVersion: Rev. A; PackageReference: CB-16-1; PackageDescription: 16-Ball Wafer Level Chip Scale Package, Body 2 X 2 mm, Pitch 0.5 mm; Supplier 1: Mouser; Supplier Part Number 1: N/A; Is OFF: 200pA, 200pA, 200pA; Packing: Reel; Mounting Technology: Surface Mount; ComponentLink1Description: Manufacturer URL; ComponentLink1URL: http://www.analog.com/en/index.html; ComponentLink2Description: Datasheet; ComponentLink2URL: http://www.analog.com/static/imported-files/data_sheets/ADG888.pdf; ComponentLink3Description: Package Specification; ComponentLink3URL: http://www.analog.com/static/imported-files/packages/PKG_PDF/WLCSP(CB)/CB_16_1.pdf
footprint ADI-CB-16-1 (BGA, 16-Balls, Body 2x2mm, Pitch 0.5mm)
pins: A1 D4 "Drain Terminal. Can be an input or output.", A2 S4B "Source Terminal. Can be an input or output.", A3 S3B "Source Terminal. Can be an input or output.", A4 D3 "Drain Terminal. Can be an input or output.", B1 S4A "Source Terminal. Can be an input or output.", B2 GND (power) "Ground (0 V) Reference.", B3 IN2 (in) "Logic Control Input.", B4 S3A "Source Terminal. Can be an input or output.", C1 S1A "Source Terminal. Can be an input or output.", C2 VDD (power) "Most Positive Power Supply Potential.", C3 IN1 (in) "Logic Control Input.", C4 S2A "Source Terminal. Can be an input or output.", D1 "Drain Terminal. Can be an input or output.", D2 S1B "Source Terminal. Can be an input or output.", D3 S2B "Source Terminal. Can be an input or output.", D4 D2 "Drain Terminal. Can be an input or output."